# Altium schematic symbol library YAYAT-LIB.SchLib: 42 symbols
Pins are listed as number, name and electrical type; pins without a type are passive.

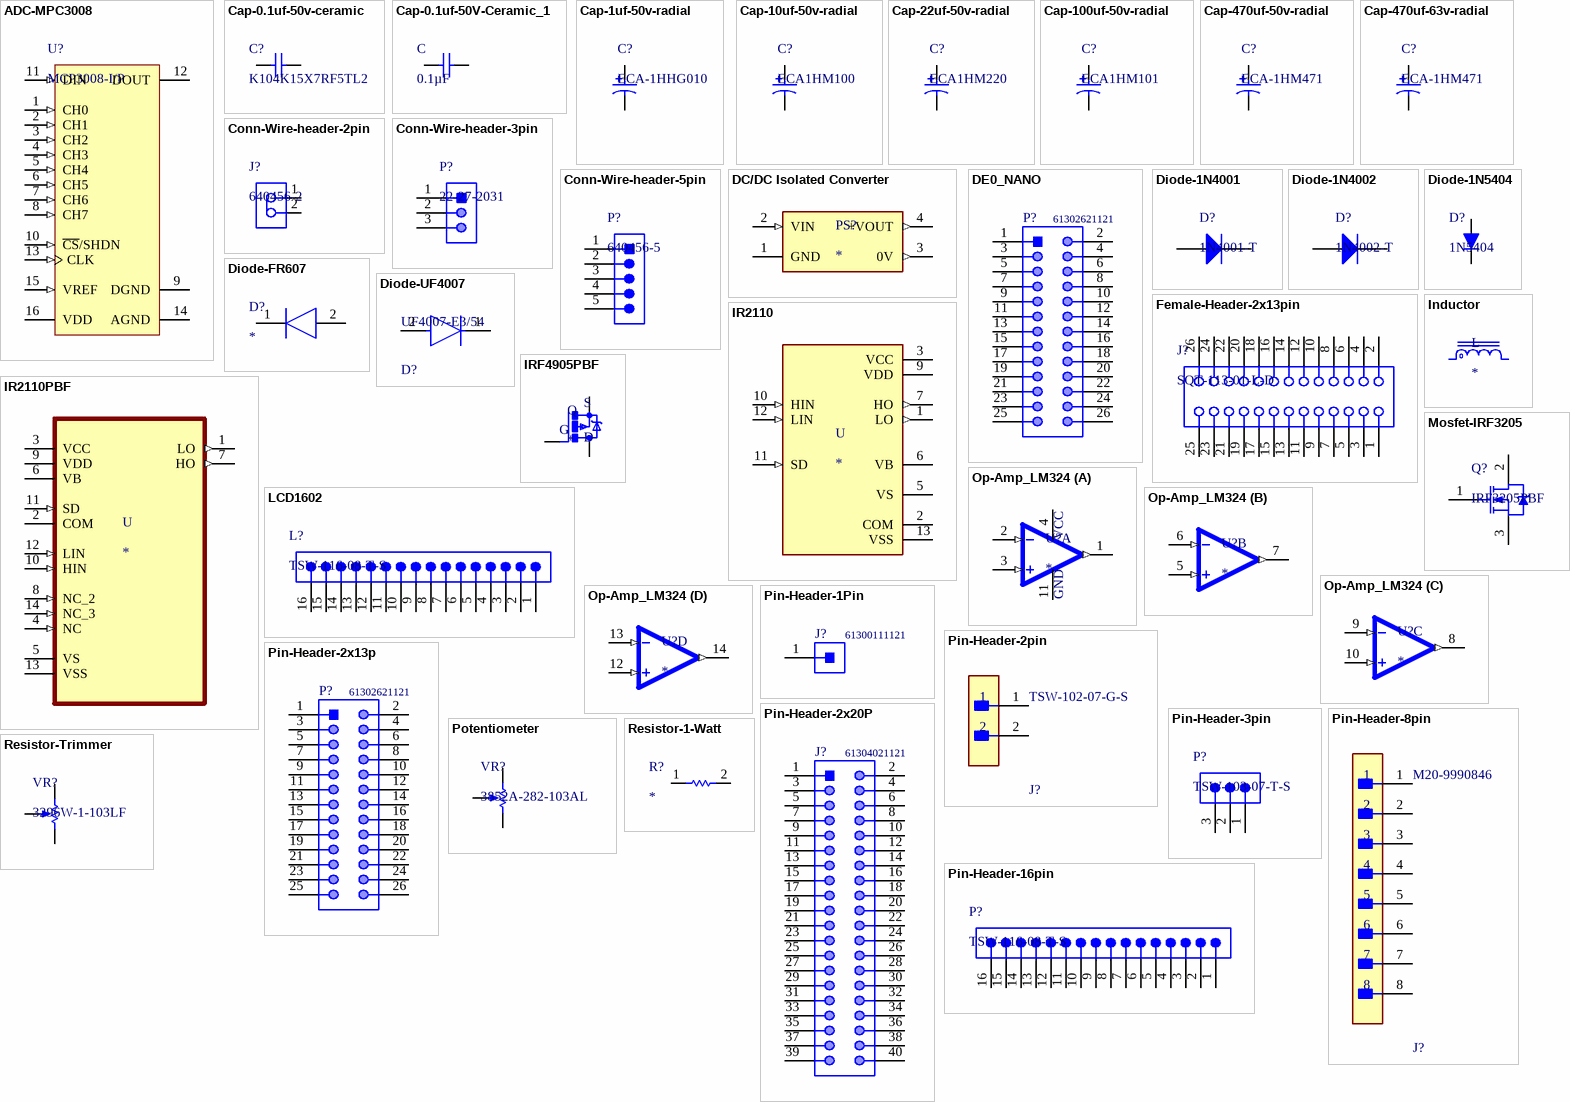
[diagram p0: symbols ADC-MPC3008 to Resistor-Trimmer]

## ADC-MPC3008
designator U?, comment MCP3008-I/P
2.7V 4-Channel/8-Channel 10-Bit A/D Converters with SPI Serial Interface, 16-Pin PDIP, Industrial Temperature; ComponentLink1URL: http://www.microchip.com/; ComponentLink2URL: http://ww1.microchip.com/downloads/en/DeviceDoc/21295d.pdf; PackageVersion: revBB, Aug-2009; ComponentLink3URL: http://www.microchip.com/stellent/groups/techpub_sg/documents/packagingspec/en012702.pdf; DatasheetVersion: revD, Dec-2008; PackageDescription: 16-Lead Plastic Dual In-Line (P) - 300 mil Body [PDIP]; ComponentLink3Description: Package Specification; Code_JEDEC: MS-001-BB; ComponentLink1Description: Manufacturer URL; RevisionNote: URLs added.; PackageReference: PDIP300-P16; ComponentLink2Description: Datasheet
footprint ADC-MPC3008 (DIP, 16-Leads, Row Spacing 7.62mm, Pitch 2.54mm, Body 19.2x6.6mm)
pins: 1 CH0 (in), 2 CH1 (in), 3 CH2 (in), 4 CH3 (in), 5 CH4 (in), 6 CH5 (in), 7 CH6 (in), 8 CH7 (in), 9 DGND (power), 10 ~{CS}/SHDN (in), 11 DIN (in), 12 DOUT (hiz), 13 CLK (in), 14 AGND (power), 15 VREF (in), 16 VDD (power)

## Cap-0.1uf-50v-ceramic
designator C?, comment K104K15X7RF5TL2
Ceramic Capacitor, 100 nF, +/- 10%, 50 V, -55 to 125 degC, 2-Pin THD, RoHS, Tape and Reel; Manufacturer: Vishay; Other Names: BC1084CT; Catalog Drawings: Mono-KapSide2-15_5.58Mono-KapSide1_15; Temperature Coefficient: X7R; Voltage - Rated: 50V; Online Catalog: Mono-Kap™Series; Capacitance: 0.1µF; Size / Dimension: 0.157"Lx0.098"W(4.00mmx2.50mm); Operating Temperature: -55°C~125°C; Family: CeramicCapacitors; Manufacturer URL: http://www.vishay.com/; Standard Package: 1; Thickness (Max): -; Ratings: -; Datasheet Version: 08/2013; Package Description: 2-Pin Through Hole Device, Body 4 x 2.6 mm; Mounting Type: ThroughHole; Features: -; Lead Spacing: 0.098"(2.50mm); Tolerance: ±10%; Category: Capacitors; Mounting Technology: ThroughHole; Lead Style: Straight; Datasheet URL: http://www.vishay.com/docs/45171/kseries.pdf; Applications: GeneralPurpose; Package / Case: Radial; Height - Seated (Max): 0.220"(5.58mm); Package Reference: K104K15X7RF5TL2; Series: Mono-Kap™K; Packaging: CutTape(CT)
footprint Cap-0.1uf-50v-ceramic (THD, 2-Leads, Body 4x2.6mm)
pins: 1, 2

## Cap-0.1uf-50V-Ceramic_1
designator C, comment 0.1µF
Lead Capacitor X7R_EIA_ with Capacitance: 0.10F and Rated Voltage: 50Vdc; MP: RDER71H104K0K1H03B; MF: Murata; Package: NONSTANDARD; Price: None; Availability: Unavailable; Value: *; SnapEDA_Link: https://www.snapeda.com/parts/RDER71H104K0K1H03B/Murata/view-part/4545566/?ref=snap
footprint Cap-0.1uf-50V-Ceramic1
pins: 1, 2

## Cap-1uf-50v-radial
designator C?, comment ECA-1HHG010
Aluminum Electrolytic Capacitor, 1 uF, +/- 20%, 50 V, -55 to 105 degC, 2-Pin THD, RoHS, Bulk; Channels: 2; ComponentLink1Description: Manufacturer URL; ComponentLink2Description: Datasheet; ComponentLink2URL: https://datasheet.ciiva.com/7275/94060-7275472.pdf; PackageDescription: 2-Pin Radial Lead, Dia 5 mm, Body Length 11 mm; PackageReference: CAPPR55-200-1100X500X1200; Mount: Through Hole; Radiation Hardening: No; ComponentLink1URL: http://www.panasonic.com/; Min Operating Temperature: -30 degC; Package Quantity: 150; Max Operating Temperature: 70 degC; DatasheetVersion: Mar-05; RoHSCompliant: true; Packaging: Bulk
footprint Cap-1uf-50v-radial (THD, 2-Leads, Dia 5mm, Body Length 11mm)
pins: 1, 2

## Cap-10uf-50v-radial
designator C?, comment ECA1HM100
Aluminum Electrolytic Capacitor, 10 uF, +/- 20%, 50 V, -40 to 85 degC, 2-Pin THD, RoHS, Bulk; Manufacturer: Panasonic; Life (Hours): 2000Hour; Lead/Base Style: Straight; Dissipation Factor: 0.12%; Capacitance: 10uF; Leakage Current: 3uA; Dielectric Material: Aluminium; Lead Diameter: 0.5mm; Voltage Rating: 50V; Ripple Current: 65mA; Package Reference: CAPPR55-200-1100X500X1200; Height: 11mm; Diameter: 5mm; REACH SVHC: NoSVHC; Mount: ThroughHole; Packaging: Bulk; Manufacturer URL: http://www.panasonic.com/; Termination: Radial; Datasheet URL: https://industrial.panasonic.com/cdbs/www-data/pdf/RDF0000/ABA0000C1218.pdf; Lead Free: LeadFree; Height - Seated (Max): 0.472inch; Case/Package: Radial; Package Description: 2-Pin Radial Lead, Dia 5 mm, Height 12 mm; Tolerance: 20%; Datasheet Version: Rev. 05, 10/2016; Package Quantity: 200; Ripple Current (AC): 65mA; Min Operating Temperature: -40degC; RoHSCompliant: true; Number of Pins: 2; Max Operating Temperature: 85degC; Voltage: 50V; Lead Pitch: 2mm; Radiation Hardening: No; Voltage Rating (DC): 50V; Length: 11mm
footprint Cap-10uf-50v-radial (THD, 2-Leads, Dia 5mm, Body Length 11mm)
pins: 1, 2

## Cap-22uf-50v-radial
designator C?, comment ECA1HM220
Aluminum Electrolytic Capacitor, 22 uF, +/- 20%, 50 V, -40 to 85 degC, 2-Pin THD, RoHS, Bulk; Manufacturer: Panasonic; Ripple Current: 100mA; Life (Hours): 2000Hour; Voltage: 50V; Dissipation Factor: 0.12%; Leakage Current: 3uA; Lead/Base Style: Straight; Capacitance: 22uF; Lead Diameter: 0.5mm; Max Operating Temperature: 85degC; Height: 11mm; Package Reference: CAPPR55-200-1100X500X1200; Radiation Hardening: No; RoHSCompliant: true; Termination: Radial; Case/Package: Radial; REACH SVHC: NoSVHC; Height - Seated (Max): 0.472inch; Min Operating Temperature: -40degC; Packaging: Bulk; Manufacturer URL: http://www.panasonic.com/; Length: 11mm; Tolerance: 20%; Voltage Rating: 50V; Voltage Rating (DC): 50V; Datasheet URL: https://industrial.panasonic.com/cdbs/www-data/pdf/RDF0000/ABA0000C1218.pdf; Lead Pitch: 2mm; Ripple Current (AC): 100mA; Package Description: 2-Pin Radial Lead, Dia 5 mm, Height 12 mm; Diameter: 5mm; Datasheet Version: Rev. 05, 10/2016; Package Quantity: 200; Mount: ThroughHole
footprint CAP-22uf-50v-radial (THD, 2-Leads, Dia 5mm, Body Length 11mm)
pins: 1, 2

## Cap-100uf-50v-radial
designator C?, comment ECA1HM101
Aluminum Electrolytic Capacitor, 100 uF, +/- 20%, 50 V, -40 to 85 degC, 2-Pin THD, RoHS, Bulk; Manufacturer: Panasonic; Lead Diameter: 0.6mm; Dielectric Material: Aluminium; Voltage Rating (DC): 50V; Ripple Current (AC): 250mA; Polarity: Polar; Leakage Current: 3uA; Capacitance: 100uF; Life (Hours): 2000Hour; Lead/Base Style: Straight; Dissipation Factor: 0.12%; Radiation Hardening: No; Height: 11.5mm; Package Quantity: 200; Package Reference: CAPPR65-350-1150X800X1250; Min Operating Temperature: -40degC; Mount: ThroughHole; Package Description: 2-Pin Radial Lead, Dia 8 mm, Height 12.5 mm; Case/Package: Radial; Diameter: 8mm; Voltage Rating: 50V; Length: 11.5mm; REACH SVHC: NoSVHC; Height - Seated (Max): 0.492inch; Datasheet URL: https://industrial.panasonic.com/cdbs/www-data/pdf/RDF0000/ABA0000C1218.pdf; RoHSCompliant: true; Ripple Current: 250mA; Lead Free: LeadFree; Voltage: 50V; Manufacturer URL: http://www.panasonic.com/; Number of Pins: 2; Datasheet Version: Rev. 05, 10/2016; Packaging: Bulk; Termination: Radial; Max Operating Temperature: 85degC; Tolerance: 20%; Lead Pitch: 3.5mm
footprint Cap-100uf-50v-radial (THD, 2-Leads, Dia 8mm, Body 11.5mm)
pins: 1, 2

## Cap-470uf-50v-radial
designator C?, comment ECA-1HM471
Aluminum Electrolytic Capacitor, 470 uF, +/- 20%, 50 V, -40 to 85 degC, 2-Pin THD, RoHS, Bulk; Voltage Rating: 10 V; Case\Package: 1210; Tolerance: 10%; Capacitance: 47 uF; Type (Capacitors): X7R; ComponentLink1URL: http://www.panasonic.com/; PackageDescription: 2-Pin Radial Lead, Dia 10 mm, Body Length 20 mm; RoHSCompliant: true; Mount: Surface Mount; Radiation Hardening: No; PackageReference: CAPPR65-500-2000X1000X2200; ComponentLink1Description: Manufacturer URL; DatasheetVersion: Mar-16; Case Code (Imperial): 1210; Max Operating Temperature: 125 degC; Height: 2.5 mm; Voltage Rating (DC): 10 V; REACH SVHC: No SVHC; ComponentLink2URL: http://industrial.panasonic.com/cdbs/www-data/pdf/RDF0000/ABA0000C1047.pdf; Length: 3.2 mm; Min Operating Temperature: -55 degC; Case Code (Metric): 3225; Width: 2.5 mm; Pins: 2; Packaging: Tape and Reel; Package Quantity: 1000; ComponentLink2Description: Datasheet
footprint Cap-470uf-50v-radial (THD, 2-Leads, Dia 10mm, Body Length 20mm)
pins: 1, 2

## Cap-470uf-63v-radial
designator C?, comment ECA-1HM471
Aluminum Electrolytic Capacitor, 470 uF, +/- 20%, 50 V, -40 to 85 degC, 2-Pin THD, RoHS, Bulk; Voltage Rating: 10 V; Case\Package: 1210; Tolerance: 10%; Capacitance: 47 uF; Type (Capacitors): X7R; ComponentLink1URL: http://www.panasonic.com/; PackageDescription: 2-Pin Radial Lead, Dia 10 mm, Body Length 20 mm; RoHSCompliant: true; Mount: Surface Mount; Radiation Hardening: No; PackageReference: CAPPR65-500-2000X1000X2200; ComponentLink1Description: Manufacturer URL; DatasheetVersion: Mar-16; Case Code (Imperial): 1210; Max Operating Temperature: 125 degC; Height: 2.5 mm; Voltage Rating (DC): 10 V; REACH SVHC: No SVHC; ComponentLink2URL: http://industrial.panasonic.com/cdbs/www-data/pdf/RDF0000/ABA0000C1047.pdf; Length: 3.2 mm; Min Operating Temperature: -55 degC; Case Code (Metric): 3225; Width: 2.5 mm; Pins: 2; Packaging: Tape and Reel; Package Quantity: 1000; ComponentLink2Description: Datasheet
footprint Cap-470uf-63v-radial (THD, 2-Leads, Dia 10mm, Body Length 20mm)
pins: 1, 2

## Conn-Wire-header-2pin
designator J?, comment 640456-2
Male Header, Pitch 2.54 mm, 1 x 2 Position, Height 10.49 mm, Tail Length 3.556 mm, -55 to 105 degC, RoHS, Bulk; Manufacturer: TE Connectivity; Standards: RoHSCompliant,ELVCompliant,UL94V-0; Material, Housing: Polyester; Agency Approvals: CSA,UL; Brand/Series: MTA-100Series; Contact Centerline Spacing: 0.100 / in.; Material, Contact: CopperAlloy; Current, Rating: 5 / A; Color, Housing: White; Contact Termination Area Plating: Tin; Special Features: Pinstrip; Number of Positions: 2; Pin Spacing: 0.1 / "; Temperature, Operating: -55to+105 / degC; Angle: Straight; Mount Angle: Vertical; Connector Type: MTA-100; Primary Type: InterconnectSystem; Voltage, Rating: 250 / V; Mounting Hole Size: 0.04 / "; Number of Rows: 1; Termination: Solder; Length, Terminal Post: 0.14 / in.; Manufacturer URL: http://www.te.com/; Color: White; Size, Post: 0.025 / in.; Contact Shape: Square; Mounting Type: PCMount; Datasheet URL: https://datasheet.ciiva.com/11746/0900766b80eb7fdd-11746365.pdf; Type: PCBPlug; Datasheet Version: Rev. W, 06/2004; Number of Contacts: 2; Flammability Rating: UL94V-0; Contact Plating: Tin; Length, Pin: 0.14 / "; Contact Mating Area Plating: Tin; Length, Overall: 0.2 / "
footprint Conn-Wire-header-2pin (HDR, 2-Leads, Body 5.715x5.08mm, Pitch 2.54mm)
pins: 1, 2

## Conn-Wire-header-3pin
designator P?, comment 22-27-2031
Male Header, Pitch 2.54 mm, 1 x 3 Position, Height 11.7 mm, Tail Length 3.56 mm, -40 to 80 degC, RoHS, Bulk; Manufacturer: Molex; Voltage rating: 250V; Current rating: 4A; Package Reference: 22-27-2031; Housing material: Nylon(UL94V-0); Operating temperature: 0°Cto+75°C; Package Description: Male Header, Pitch 2.54 mm, 1 x 3 Position, Height 11.7 mm, Tail Length 3.56 mm; Package URL: http://www.molex.com/pdm_docs/sd/022272031_sd.pdf; Datasheet Version: 06/2016; Manufacturer URL: http://www.molex.com/; Mounting Technology: ThroughHole; Datasheet URL: http://www.molex.com/webdocs/datasheets/pdf/en-us/0022272031_PCB_HEADERS.pdf; Contact material: Tinplatedbrass
footprint Conn-Wire-header-3pin (Header, 3-Leads, Body 7.62x5.8mm, Pitch 2.54mm)
pins: 1, 2, 3

## Conn-Wire-header-5pin
designator P?, comment 640456-5
Male Header, Pitch 2.54 mm, 1 x 5 Position, Height 10.03 mm, Tail Length 3.56 mm, / -55 to 105 degC, RoHS, Bulk; Manufacturer: TE Connectivity; Material, Housing: Polyester; Brand/Series: MTA-100Series; Color, Housing: White; Current, Rating: 5 / A; Temperature, Operating: -55to+105 / °C; Connector Type: MTA-100; Agency Approvals: CSA,UL; Material, Contact: CopperAlloy; Mounting Hole Size: 0.04 / "; Voltage, Rating: 250 / V; Contact Termination Area Plating: Tin; Pin Spacing: 0.1 / "; Primary Type: InterconnectSystem; Special Features: Pinstrip; Mount Angle: Vertical; Contact Centerline Spacing: 0.100 / in.; Number of Contacts: 5; Standards: RoHSCompliant,ELVCompliant,UL94V-0; Angle: Straight; Length, Terminal Post: 0.14 / in.; Manufacturer URL: http://www.te.com; Flammability Rating: UL94V-0; Mounting Type: PCMount; Termination: Solder; Package Reference: THD; Length, Overall: 0.5 / "; Contact Mating Area Plating: Tin; Length, Pin: 0.14 / "; Datasheet URL: http://sigma.octopart.com/77881742/technical_drawing/TE-Connectivity-640456-5.pdf; Package Description: Male Header, Pitch 2.54 mm, 1 x 5 Position, Height 10.03 mm, Tail Length 3.56 mm; Datasheet Version: Rev. W3; Contact Plating: Tin; Color: White; Number of Positions: 5; Type: PCBPlug; Contact Shape: Square; Number of Rows: 1; Size, Post: 0.025 / in.
footprint Conn-Wire-header-5pin (Through Hole, 5-Leads, Body 12.7x5.72mm, Pitch 2.54mm)
pins: 1 DTR, 2 RXI, 3 TXO, 4 VCC, 5 CTS

## DC/DC Isolated Converter
designator PS?
MP: PDSE1-S24-S15-S; Package: None; Value: *; Price: None; Availability: Unavailable
footprint DC/DC Isolated Converter
pins: 1 GND (power), 2 VIN (in), 3 0V (out), 4 +VOUT (out)

## DE0_NANO
designator P?, comment 61302621121
THT Vertical Pin Header WR-PHD, Pitch 2.54 mm, Dual Row, 26 pins; Manufacturer: Wurth Elektronik; Pin Number: 26; Withstanding Voltage: 500VAC; Working Voltage: 250VAC; Contact Resistance: 20mOhm; Pitch: 2.54mm; Rated Current: 3A; Gender: Male; Package Reference: 61302621121; Manufacturer URL: http://www.we-online.de; Row Number: Dual; Packaging: Bag; Publisher: WurthElektronik; Datasheet URL: https://katalog.we-online.de/em/datasheet/6130xx21121.pdf; Operating Temperature: -40to105degC; Mounting Technology: THT; Orientation: Vertical; Part Number: 61302621121
footprint DE0-nano (Pin Header, pitch 2.54 mm, THT, Vertical, dual row, 26p)
pins: 1, 2, 3, 4, 5, 6, 7, 8, 9, 10, 11, 12, 13, 14, 15, 16, 17, 18, 19, 20, 21, 22, 23, 24, 25, 26

## Diode-1N4001
designator D?, comment 1N4001-T
1.0 A Rectifier, 15 pF, 50 V, -65 to 150 degC, 2-Pin DO-41 Plastic, RoHS, Tape and Reel; Manufacturer: Diodes Inc; VF (V): 1; CT (pF): 15; Max. IR (uA): 5; VRRM (V): 50; Max. IFSM (A): 30; RoHS: TRUE; Mounting Technology: Through Hole; PartNumber: 1N4001-T; ComponentLink2Description: Datasheet; DatasheetVersion: Rev. 8-2; Operating Temperature Range (degC): -65 to 150; Packing: Tape and Reel; PackageReference: DO-41-P-2; ComponentLink1URL: http://diodes.com/; PackageDescription: 2-Pin Axial Lead, Body 4.635 x 2.36 mm, Lead Spread 25.4 mm; ComponentLink2URL: http://diodes.com/datasheets/ds28002.pdf; Max. Average Rectified Current IO (A): 1; ComponentLink1Description: Manufacturer URL
footprint Diode-1N4001 (2-Leads, Axial Lead, Body 4.635x2.36mm, Pin Spacing 9mm)
pins: 1 A, 2 K

## Diode-1N4002
designator D?, comment 1N4002-T
1.0 A Rectifier, 15 pF, 100 V, -65 to 150 degC, 2-Pin DO-41 Plastic, RoHS, Tape and Reel; Manufacturer: Diodes Inc; Max. Average Rectified Current IO (A): 1; Max. IFSM (A): 30; CT (pF): 15; Max. IR (uA): 5; VRRM (V): 100; DatasheetVersion: Rev. 8-2; ComponentLink2Description: Datasheet; PartNumber: 1N4002-T; ComponentLink2URL: http://diodes.com/datasheets/ds28002.pdf; PackageDescription: 2-Pin Axial Lead, Body 4.635 x 2.36 mm, Lead Spread 25.4 mm; ComponentLink1Description: Manufacturer URL; RoHS: TRUE; Mounting Technology: Through Hole; Packing: Tape and Reel; Operating Temperature Range (degC): -65 to 150; VF (V): 1; ComponentLink1URL: http://diodes.com/; PackageReference: DO-41-P-2
footprint Diode-1N4002 (2-Leads, Axial Lead, Body 4.635x2.36mm, Pin Spacing 9mm)
pins: 1 A, 2 K

## Diode-1N5404
designator D?, comment 1N5404
Standard Recovery Rectifier, 2-Pin Axial_Lead, Pb-Free, Bulk Box; Manufacturer: On Semiconductor; IFSM Max (A): 200; VRRM Max (V): 400; IO(rec) Max (A): 3; ComponentLink3Description: Package Specification; PackageDescription: 2-Pin, Axial Lead, Diameter 5.05 mm; Type: Standard Recovery; PackageVersion: Rev. G, 06/2000; ComponentLink1Description: Manufacturer URL; ComponentLink2Description: Datasheet; Packing: Bulk Box; PackageReference: AXIAL_LEAD-2-267-05; Mounting Technology: Through Hole; DatasheetVersion: Rev. 10; RoHS: TRUE; ComponentLink3URL: http://www.onsemi.com/pub_link/Collateral/267-05.PDF; PartNumber: 1N5404; ComponentLink2URL: http://www.onsemi.com/pub_link/Collateral/1N5400-D.PDF; ComponentLink1URL: http://www.onsemi.com/
footprint Diode-1N5404
pins: 1 A, 2 K

## Diode-FR607
designator D?
Diode; Manufacturer_Name: Comchip Technology; Manufacturer_Part_Number: FR607-G; Datasheet Link: https://componentsearchengine.com/Datasheets/1/FR607-G.pdf; Mouser Part Number: 750-FR607-G; Mouser Price/Stock: https://www.mouser.co.uk/ProductDetail/Comchip-Technology/FR607-G?qs=2qJf6qQ4IOLkuLNviEGezw%3D%3D
footprint Diode-FR607
pins: 1 K, 2 A

## Diode-UF4007
designator D?, comment UF4007-E3/54
DIODE GEN PURP 1KV 1A DO204AL; Manufacturer: Vishay; Max Junction Temp: +150°C; Max Repetitive Reverse Voltage: 1000V; Max Surge Forward Current: 30A; Capacitance: 17pF; Peak Reverse Current: 10uA; Value: 17pF; Package: UF4007; Height: 2.7mm; RoHS: TRUE; Device Class L3: Rectifier Diodes; Temperature Range Low: -55°C; Ipc Land Pattern Name: DIOPA1088W105L520D270; Temperature: -55°C to +150°C; Category: Diode; Device Class L2: Diodes; Device Class L1: Discrete Semiconductors; Digikey Description: DIODE GEN PURP 1KV 1A DO204AL; Octopart: https://octopart.com/uf4007-e3%2F54-vishay-42333894; Mouser Description: Rectifiers Vr/1000V Io/1A; ComponentLink2URL: http://www.vishay.com/docs/88755/uf4001.pdf; Lead Free: Yes; Temperature Range High: +150°C; Automotive: No; Manufacturer Part Number: UF4007-E3/54; ComponentLink2Description: Datasheet; Forward Current: 1A
footprint Diode-UF4007
pins: 1 C, 2 A

## Female-Header-2x13pin
designator J?, comment SQT-113-01-L-D
Cost-Effective Rugged Socket, Through-hole, Vertical, -55 to 125 degC, 2 mm Pitch, 26-Pin, Female, RoHS; Manufacturer: Samtec; Pitch: 2 mm; Temperature Range: -55 to 125 degC; ComponentLink2URL: http://www.samtec.com/documents/webfiles/pdf/SQT_TH.PDF; DatasheetVersion: F-214; ComponentLink1Description: Manufacturer URL; Orientation: Vertical; ComponentLink2Description: Datasheet; PackageDescription: 2mm Socket Strip Assembly; RoHS: True; PackageReference: SQT-113-01-X-D; Mounting Technology: Through-hole; PackageVersion: BY, 7/1995; ComponentLink1URL: http://www.samtec.com; PartNumber: SQT-113-01-L-D; ComponentLink3URL: http://www.samtec.com/documents/webfiles/cpdf/SQT-1XX-XX-XXX-X-XXX-XXX-MKT.pdf; ComponentLink3Description: Package Specification
footprint Female-Header-2x13pin (Socket Strip Assembly, 2x13 Pins, Vertical, 2mm Pitch, Female)
pins: 1, 2, 3, 4, 5, 6, 7, 8, 9, 10, 11, 12, 13, 14, 15, 16, 17, 18, 19, 20, 21, 22, 23, 24, 25, 26

## Inductor
designator L
330ÂµH Unshielded Toroidal Inductor 3A 150mOhm Max Radial, Vertical (Open); MP: PE-53117; MF: Pulse Electronics; Value: *; SnapEDA_Link: https://www.snapeda.com/parts/PE-53117/Pulse%20Electronics%20Network/view-part/4706173/?ref=snap; Price: None; Package: Radial Pulse Electronics; Availability: Bad
footprint Inductor
pins: 1, 2

## IR2110
designator U
Half-Bridge Gate Driver IC Non-Inverting 14-DIP; MP: IR2110; MF: Infineon; Package: DIP-14 Infineon; Availability: Unavailable; Value: *; SnapEDA_Link: https://www.snapeda.com/parts/IR2110/Infineon%20Technologies/view-part/549251/?ref=snap; Price: None
footprint Mosfet-Driver-Ir2110
pins: 1 LO (out), 2 COM (power), 3 VCC (power), 5 VS, 6 VB, 7 HO (out), 9 VDD (power), 10 HIN (in), 11 SD (in), 12 LIN (in), 13 VSS (power)

## IR2110PBF
designator U
Floating channel designed for bootstrap operation | Fully operational to +500 V | Fully operational to +600 V verstion available _IR2113 | dV/dt immune | Gate drive supply range from 10 to 20 V | Undervoltage lockout for both channels | 3.3 V logic compatible | Separate logic supply range from 3.3 V to 20 V | Logic and power ground + /- 5 V offset | CMOS Schmitt-triggered inputs with pull-down | Cycle by cycle edge-triggered shutdown logic | Matched propagation delay for both channels | Outputs in phase with inputs; MP: IR2110PBF; MF: Infineon; Price: None; Package: DIP-14 Infineon; Value: *; Availability: Unavailable; SnapEDA_Link: https://www.snapeda.com/parts/IR2110PBF/Infineon%20Technologies/view-part/547122/?ref=snap
footprint Mosfet-Driver-IR2110PBF
pins: 1 LO (out), 2 COM, 3 VCC (power), 4 NC (in), 5 VS (power), 6 VB (power), 7 HO (out), 8 NC_2 (in), 9 VDD (power), 10 HIN (in), 11 SD (in), 12 LIN (in), 13 VSS (power), 14 NC_3 (in)

## IRF4905PBF
designator Q
P-Channel 55V 74A _Tc_ 200W _Tc_ Through Hole TO-220AB; MF: Infineon Technologies; MP: IRF4905PBF; Price: None; SnapEDA_Link: https://www.snapeda.com/parts/IRF4905PBF/Infineon%20Technologies/view-part/98985/?ref=snap; Package: TO-220 International Rectifier; Availability: Unavailable; Value: *
footprint IRF4905PBF
pins: D, G, S

## LCD1602
designator L?, comment TSW-116-08-T-S
0.025" SQ Post Header, Through-hole, Vertical, -55 to 105 degC, 2.54 mm Pitch, 16-Pin, Male, RoHS; Manufacturer: Samtec; Pitch: 2.54 mm; PackageDescription: .025[0.64] SQ. Post Terminal Strip Assembly; Orientation: Vertical; DatasheetVersion: F-214; ComponentLink2URL: http://www.samtec.com/documents/webfiles/pdf/TSW_TH.PDF; ComponentLink3URL: http://www.samtec.com/documents/webfiles/cpdf/TSW-XXX-XX-XXX-X-XX-XXX-MKT.pdf; ComponentLink1URL: http://www.samtec.com; PackageReference: TSW-116-08-X-S; ComponentLink2Description: Datasheet; ComponentLink1Description: Manufacturer URL; ComponentLink3Description: Package Specification; Temperature Range: -55 to 105 degC; Mounting Technology: Through-hole; PartNumber: TSW-116-08-T-S; PackageVersion: DM, 8/1988; RoHS: True
footprint LCD1602 (.025 SQ Post Terminal Strip Assembly, 1x16 Pins, Vertical, 2.54mm Pitch, Male)
pins: 1, 2, 3, 4, 5, 6, 7, 8, 9, 10, 11, 12, 13, 14, 15, 16

## Mosfet-IRF3205
designator Q?, comment IRF3205PBF
HEXFET(R) Power N-Channel MOSFET, 55 V, 110 A, -55 to 117 degC, 3-Pin TO-220AB, RoHS, Rail/Tube; Manufacturer: International Rectifier; Typical Gate Charge @ Vgs: 146nC@10V; Maximum Gate Source Voltage: ±20V; Maximum Continuous Drain Current: 110A; Typical Input Capacitance @ Vds: 3247pF@25V; Channel Type: N; Minimum Gate Threshold Voltage: 2V; Number of Elements per Chip: 1; Transistor Configuration: Single; Transistor Material: Si; Maximum Drain Source Voltage: 55V; Maximum Gate Threshold Voltage: 4V; Typical Turn-Off Delay Time: 50ns; Typical Turn-On Delay Time: 14ns; Channel Mode: Enhancement; Maximum Drain Source Resistance: 0.008Ω; Maximum Power Dissipation: 200W; Package Version: Feb-04; Package Type: TO-220AB; Width: 4.69mm; Dimensions: 10.54x4.69x8.77mm; Category: PowerMOSFET; Package URL: http://www.infineon.com/dgdl/bts110.pdf?folderId=db3a304412b407950112b43583c16310&fileId=db3a304412b407950112b43584326311&sId=db3a30443e3c704d013e4eb6657a2604; Package Description: 3-Pin Plastic (Green) Transistor Single Outline Package, 9.9 x 9.2 mm Body, 2.54 mm Pitch; Package Reference: PG-TO-220AB; Length: 10.54mm; Height: 8.77mm; Datasheet Version: Jul-10; Minimum Operating Temperature: -55degC; Manufacturer URL: http://internationalrectifier.com/; Datasheet URL: http://datasheet.octopart.com/IRF3205PBF-International-Rectifier-datasheet-10898897.pdf; Maximum Operating Temperature: +175degC; Pin Count: 3; Mounting Type: ThroughHole
footprint Mosfet-IRF3205 (FM, 3-Leads, Body 9.9x4.4mm, Pitch 2.54mm)
pins: 1 G, 2 D, 3 S

## Op-Amp_LM324
designator U?
MP: LM324NE3; Package: None; Availability: Unavailable; Price: None; Value: *
footprint Op-Amp_LM324
part A pins: 1 1OUT (out), 2 1IN- (in), 3 1IN+ (in), 4 VCC (power), 11 GND (power)
part B pins: 5 2IN+ (in), 6 2IN- (in), 7 2OUT (out)
part C pins: 8 3OUT (out), 9 3IN- (in), 10 3IN+ (in)
part D pins: 12 4IN+ (in), 13 4IN- (in), 14 4OUT (out)

## Pin-Header-1Pin
designator J?, comment 61300111121
THT Vertical Pin Header WR-PHD, Pitch 2.54 mm, Single Row, 1 pins; Manufacturer: Wurth Elektronik; Gender: Male; Working Voltage: 250VAC; Withstanding Voltage: 500VAC; Pin Number: 1; Contact Resistance: 20mOhm; Rated Current: 3A; Pitch: 2.54mm; Mounting Technology: THT; Datasheet URL: https://katalog.we-online.de/em/datasheet/6130xx11121.pdf; Manufacturer URL: http://www.we-online.de; Operating Temperature: -40to105degC; Publisher: WurthElektronik; Part Number: 61300111121; Row Number: Single; Package Reference: 61300111121; Orientation: Vertical; Packaging: Bag
footprint PIN-HEADER-1PIN (Pin Header, pitch 2.54 mm, THT, Vertical, single row, 1p)
pins: 1

## Pin-Header-2pin
designator J?, comment TSW-102-07-G-S
CONN HEADER VERT 2POS 2.54MM; Manufacturer: Samtec; Number Of Contacts: 2; Voltage Rating: 550V; Conn Orientation: Straight; Current Rating: 6.3A; Conn Gender: Male; Package: TSW-102-07-G-S; Digikey Description: CONN HEADER VERT 2POS 2.54MM; ComponentLink2URL: http://suddendocs.samtec.com/catalog_english/tsw_th.pdf; Height: 8.71mm; Temperature: -55°C to +125°C; Device Class L2: Headers and Wire Housings; ComponentLink2Description: Datasheet; Device Class L3: unset; Contact Material: Gold,Nickel; Temperature Range Low: -55°C; Temperature Range High: +125°C; RoHS: TRUE; Device Class L1: Connectors; Mouser Description: Conn Unshrouded Header HDR 2 POS 2.54mm Solder ST Thru-Hole Automotive Bulk; Number Of Rows: 1; Category: Conn; Pitch: 2.54mm; Lead Free: Yes; Automotive: No; Manufacturer Part Number: TSW-102-07-G-S; Footprint Url: http://suddendocs.samtec.com/prints/tsw-xxx-xx-x-x-xx-xxx-footprint.pdf; Octopart: https://octopart.com/tsw-102-07-g-s-samtec-272197
footprint Pin-Header-2pin
pins: 1, 2

## Pin-Header-2x13p
designator P?, comment 61302621121
THT Vertical Pin Header WR-PHD, Pitch 2.54 mm, Dual Row, 26 pins; Manufacturer: Wurth Elektronik; Pin Number: 26; Withstanding Voltage: 500VAC; Working Voltage: 250VAC; Contact Resistance: 20mOhm; Pitch: 2.54mm; Rated Current: 3A; Gender: Male; Package Reference: 61302621121; Manufacturer URL: http://www.we-online.de; Row Number: Dual; Packaging: Bag; Publisher: WurthElektronik; Datasheet URL: https://katalog.we-online.de/em/datasheet/6130xx21121.pdf; Operating Temperature: -40to105degC; Mounting Technology: THT; Orientation: Vertical; Part Number: 61302621121
footprint Pin-Header-2x13Pin (Pin Header, pitch 2.54 mm, THT, Vertical, dual row, 26p)
pins: 1, 2, 3, 4, 5, 6, 7, 8, 9, 10, 11, 12, 13, 14, 15, 16, 17, 18, 19, 20, 21, 22, 23, 24, 25, 26

## Pin-Header-2x20P
designator J?, comment 61304021121
THT Vertical Pin Header WR-PHD, Pitch 2.54 mm, Dual Row, 40 pins; Manufacturer: Wurth Elektronik; Contact Resistance: 20mOhm; Pitch: 2.54mm; Pin Number: 40; Withstanding Voltage: 500VAC; Gender: Male; Rated Current: 3A; Working Voltage: 250VAC; Operating Temperature: -40to105degC; Manufacturer URL: http://www.we-online.de; Orientation: Vertical; Datasheet URL: https://katalog.we-online.de/em/datasheet/6130xx21121.pdf; Package Reference: 61304021121; Row Number: Dual; Part Number: 61304021121; Packaging: Bag; Mounting Technology: THT; Publisher: WurthElektronik
footprint Pin-Header-2x20pin (Pin Header, pitch 2.54 mm, THT, Vertical, dual row, 40p)
pins: 1, 2, 3, 4, 5, 6, 7, 8, 9, 10, 11, 12, 13, 14, 15, 16, 17, 18, 19, 20, 21, 22, 23, 24, 25, 26, 27, 28, 29, 30, 31, 32, 33, 34, 35, 36, 37, 38, 39, 40

## Pin-Header-3pin
designator P?, comment TSW-103-07-T-S
0.025" SQ Post Header, Through-hole, Vertical, -55 to 105 degC, 2.54 mm Pitch, 3-Pin, Male, RoHS; Manufacturer: Samtec; Pitch: 2.54 mm; ComponentLink1URL: http://www.samtec.com; ComponentLink3URL: http://www.samtec.com/documents/webfiles/cpdf/TSW-XXX-XX-XXX-X-XX-XXX-MKT.pdf; PartNumber: TSW-103-07-T-S; Mounting Technology: Through-hole; RoHS: True; DatasheetVersion: F-214; PackageVersion: DM, 8/1988; Temperature Range: -55 to 105 degC; ComponentLink2Description: Datasheet; ComponentLink1Description: Manufacturer URL; Orientation: Vertical; PackageReference: TSW-103-07-X-S; ComponentLink3Description: Package Specification; ComponentLink2URL: http://www.samtec.com/documents/webfiles/pdf/TSW_TH.PDF; PackageDescription: .025[0.64] SQ. Post Terminal Strip Assembly
footprint Pin-Header-3pin (.025 SQ Post Terminal Strip Assembly, 1x3 Pins, Vertical, 2.54mm Pitch, Male)
pins: 1, 2, 3

## Pin-Header-8pin
designator J?, comment M20-9990846
CONN HEADER VERT 8POS 2.54MM; Connector Type: Male Pin; Gender: Male; Insulation Resistance: 1GR; Number of Positions: 8; Contact Resistance: 30mR; Current Rating: 3A; Termination: Solder; Case/Package: SIL; RoHS Compliant: Yes; Series: M20; Housing Material: Nylon; Radiation Hardening: No; Package Quantity: 1000; Contact Material: Brass; Contact Plating: Tin; Max Operating Temperature: 105°C; Contact Mating Length: 0.24inch; Depth: 2.54mm; Color: Black; Number of Contacts: 8; Mount: Through Hole; Number of Rows: 1; Packaging: Bulk; Min Operating Temperature: -40°C; Max Current Rating: 3A; REACH SVHC: No SVHC; Pitch: 2.54mm; Housing Color: Black; Orientation: Straight; Length: 20.32mm; Contact Type: Male Pin
footprint Pin-Header-8pin
pins: 1, 2, 3, 4, 5, 6, 7, 8

## Pin-Header-16pin
designator P?, comment TSW-116-08-T-S
0.025" SQ Post Header, Through-hole, Vertical, -55 to 105 degC, 2.54 mm Pitch, 16-Pin, Male, RoHS; Manufacturer: Samtec; Pitch: 2.54 mm; PackageDescription: .025[0.64] SQ. Post Terminal Strip Assembly; Orientation: Vertical; DatasheetVersion: F-214; ComponentLink2URL: http://www.samtec.com/documents/webfiles/pdf/TSW_TH.PDF; ComponentLink3URL: http://www.samtec.com/documents/webfiles/cpdf/TSW-XXX-XX-XXX-X-XX-XXX-MKT.pdf; ComponentLink1URL: http://www.samtec.com; PackageReference: TSW-116-08-X-S; ComponentLink2Description: Datasheet; ComponentLink1Description: Manufacturer URL; ComponentLink3Description: Package Specification; Temperature Range: -55 to 105 degC; Mounting Technology: Through-hole; PartNumber: TSW-116-08-T-S; PackageVersion: DM, 8/1988; RoHS: True
footprint Pin-Header-16pin (.025 SQ Post Terminal Strip Assembly, 1x16 Pins, Vertical, 2.54mm Pitch, Male)
pins: 1, 2, 3, 4, 5, 6, 7, 8, 9, 10, 11, 12, 13, 14, 15, 16

## Potentiometer
designator VR?, comment 3852A-282-103AL
Diameter Panel Control, 10 KOhm, +/- 10%, 2 W, -1 to 125 degC, 3-Pin THD, RoHS, Bulk; Manufacturer: Bourns; Temperature Coefficient: ±150ppm/degC; Number of Gangs: 1; Other Names: 3852A282103AL; Actuator Length: 0.875"(22.23mm); Resistive Material: Cermet; PCN Design/Specification: PBTResinJun/2011; Rotation: 280deg; PCN Other: MultipleChanges01/Dec/2012; Catalog Drawings: 3852SeriesSide1 / 3852SeriesSide2; Online Catalog: 3852and3856Series; Associated Product: 36-8560-ND / -KNOBINSTRUMW/DIALRND.9"DIA / 36-8555-ND / -KNOBINSTRUMSKIRTEDRND.7"DIA / 36-8556-ND / -KNOBINSTRUMSKIRTEDRND.9"DIA / 36-8565-ND / -KNOBINSTRUMDBLBARRND.7"DIA / 36-8566-ND / -KNOBINSTRUMDBLBARRND.9"DIA / 36-8568-ND / -KNOBINSTRUMSGLBARRND.7"DIA / 36-8569-ND / -KNOBINSTRUMSGLBARRND.9"DIA / 36-8559-ND / -KNOBINSTRUMW/DIALRND.7"DIA / 226-1006-ND / -KNOBBLKGLOSS.75"DIA.250"SHAFT / 226-1007-ND / -KNOBBLKGLOSS.925"DIA.250"SHAFT / 226-1011-ND / -KNOBBLKGLOS; Actuator Diameter: 0.250"(6.35mm); Built in Switch: None; Resistance (Ohms): 10k; Power (Watts): 2W; Actuator Type: Slotted; Standard Package: 45; Tolerance: ±10%; Taper: Linear; Series: 3852; Packaging: Bulk; Category: Potentiometers,VariableResistors; Bushing Thread: 3/8-32; Datasheet URL: https://datasheet.ciiva.com/11831/0900766b80f93b4b-11831016.pdf; Datasheet Version: Sep-14; Number of Turns: 1; Family: RotaryPotentiometers,Rheostats; Termination Style: SolderLug; RoHS Information: 3852A-LMaterialDeclaration; Mounting Type: PanelMount; Manufacturer URL: http://www.bourns.com/
footprint Potentiometer (TH, 3-Leads, Body 19.81x19.05mm, Pitch 6.35mm)
pins: 1 CCW, 2 S, 3 CW

## Resistor-1-Watt
designator R?
Resistor; Manufacturer_Name: Ohmite; Manufacturer_Part_Number: OK1025E-R52; Datasheet Link: https://www.alliedelec.com/m/d/7f961050c862e52d900c42b673f6b00a.pdf; Mouser Part Number: 588-OK1025E-R52; Mouser Price/Stock: https://www.mouser.co.uk/ProductDetail/Ohmite/OK1025E-R52?qs=AkUtuiJmyfnfEYTpIxxGIg%3D%3D
footprint Resistor-1-Watt
pins: 1, 2

## Resistor-Trimmer
designator VR?, comment 3296W-1-103LF
Square Trimpot(R) Trimming Potentiometer, 10 KOhm, +/- 10%, 0.5 W, -55 to 125 degC, 3-Pin THD, RoHS, Tube; Voltage Rating: 75 V; Resistance: 120 Ohm; Tolerance: 1%; Power Rating: 100 mW; Case\Package: 0603; Type (Resistor): Thick Film; PackageDescription: 3-Pin Through Hole Device, Body 9.53 x 4.83 mm, Pitch 2.54 mm; RoHSCompliant: true; Package Quantity: 5000; Case Code (Metric): 1608; PackageReference: 3296W; ComponentLink2Description: Datasheet; REACH SVHC: Unknown; Case Code (Imperial): 0603; ComponentLink1URL: http://www.bourns.com/; Width: 0.85 mm; Radiation Hardening: No; Min Operating Temperature: -55 degC; Mount: Surface Mount; ComponentLink1Description: Manufacturer URL; Max Operating Temperature: 155 degC; Weight: 7.1E-05 oz; Pins: 2; DatasheetVersion: May-16; Packaging: Tape and Reel; Height: 0.45 mm; Length: 1.55 mm; ComponentLink2URL: http://www.bourns.com/docs/Product-Datasheets/3296.pdf
footprint Resistor-Trimmer (THD, 3-Leads, Body 9.53x4.83mm, Pitch 2.54mm)
pins: 1 CCW, 2 S, 3 CW

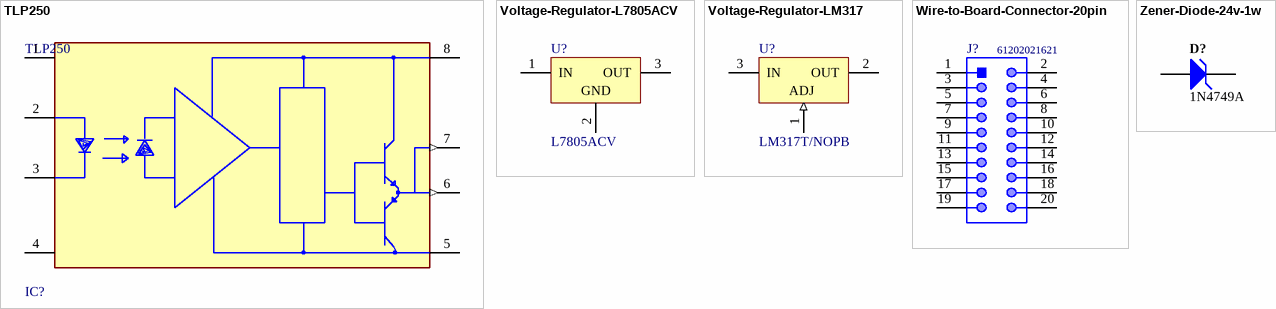
[diagram p1: symbols TLP250 to Zener-Diode-24v-1w]

## TLP250
designator IC?
Optocoupler Drive Push-Pull 1-CH 30V 600V 8-Pin PDIP; Manufacturer: TOSHIBA; Standoff Height: 0.55mm; Turn Off Delay Time: 0.15us; Max Junction Temp: +125°C; Power Dissipation: 800mW; Forward Current: 10mA; Reverse Voltage: 5V; Forward Voltage: 1.6V; Isolation Voltage: 2500Vrms; Min Supply Voltage: 10V; ComponentLink2Description: Datasheet; Octopart: https://octopart.com/tlp-250-toshiba-99104964; Automotive: No; Temperature Range High: +85°C; Lead Free: Yes; Package: 11-10C4; Category: Trans; Temperature Range Low: -20°C; Ipc Land Pattern Name: DIP762W50P254L966H445Q8; ComponentLink2URL: https://toshiba.semicon-storage.com/info/docget.jsp?did=16821&prodName=TLP250; Device Class L3: unset; Turn On Delay Time: 0.15us; Device Class L2: Optocouplers; Manufacturer Part Number: TLP250; Max Supply Voltage: 30V; Height: 4.85mm; Device Class L1: Optoelectronics; Temperature: -20°C to +85°C; RoHS: TRUE
footprint Opto-Coupler-TLP250
pins: 1 NC, 2 A, 3 C, 4 NC, 5 GND (power), 6 VO(Output) (out), 7 VO (out), 8 VCC (power)

## Voltage-Regulator-L7805ACV
designator U?, comment L7805ACV
Positive Voltage Regulator, 5V, 3-Pin TO-220; DatasheetVersion: 16/11/2011; ComponentLink2Description: Datasheet; ComponentLink3Description: Package Specification; ComponentLink2URL: http://www.st.com/internet/com/TECHNICAL_RESOURCES/TECHNICAL_LITERATURE/DATASHEET/CD00000444.pdf; PackageDescription: TO, Thru-Hole, Vertical, Heatsink Mounted; 3 In-Line Leads; Pitch 2.54 mm; ComponentLink3URL: http://www.st.com/internet/com/TECHNICAL_RESOURCES/TECHNICAL_LITERATURE/PACKAGE_INFORMATION/CD00004649.pdf; PackageReference: TO220; ComponentLink1URL: http://www.st.com; PackageVersion: ver3.0; ComponentLink1Description: Manufacturer URL
footprint Voltage-Regulator-L7805ACV (TO, Thru-Hole, Vertical, Heatsink Mounted; 3 In-Line Leads; Pitch 2.54 mm)
pins: 1 IN (power), 2 GND (power), 3 OUT (power)

## Voltage-Regulator-LM317
designator U?, comment LM317T/NOPB
3-Terminal Adjustable Regulator, 3-pin TO-220, Pb-Free; Manufacturer: Texas Instruments; PackageTopMarking: NSUZXYTTE#*LM317T P+; PowerWise: N; CompType: LDO IC; PackageDescription: TO-220, Molded, 3 Lead, Straight; RoHS: Y; ComponentLink1URL: http://www.ti.com/general/docs/lit/getliterature.tsp?genericPartNumber=LM317-N&fileType=pdf; PackageReference: NDE0003A; ComponentLink1Description: Datasheet URL; PinCount: 3
footprint Voltage-Regulator-LM317 (FM, 3-Leads, Body 10.7x4.7mm, Pitch 2.54mm)
pins: 1 ADJ (in), 2 OUT (power), 3 IN (power)

## Wire-to-Board-Connector-20pin
designator J?, comment 61202021621
Male Box Header WR-BHD, THT, Vertical, pitch 2.54 mm, 20 pins; Manufacturer: Wurth Elektronik; Contact Resistance: 20mOhm; Withstanding Voltage: 500VAC; Pitch: 2.54mm; Pin Number: 20; Working Voltage: 250VAC; Orientation: Vertical; Package Reference: 61202021621; Publisher: WurthElektronik; Datasheet URL: https://katalog.we-online.de/em/datasheet/6120xx21621.pdf; Operating Temperature: -40to125degC; Packaging: Tray; Part Number: 61202021621; Mounting Technology: THT; Gender: Male; Manufacturer URL: http://www.we-online.de; Published Date: August2018
footprint Wire-to-Board-Connector-20pin (20 pins, straight, gold plating)
pins: 1, 2, 3, 4, 5, 6, 7, 8, 9, 10, 11, 12, 13, 14, 15, 16, 17, 18, 19, 20

## Zener-Diode-24v-1w
designator D?, comment 1N4749A
Zener Diode, 24V, 1W, 5%, -65 to 200 degC, 2-Pin DO-41, Body 2.72 x 5.2 mm, RoHS; Manufacturer: Fairchild Semiconductor; VZ (Max.) (V): 25.2; IR (uA): 5; PD (W): 1; Test Current IZ (mA): 10.5; VZ (Min.) (V): 22.8; ZZ (Max) (ohm): 25; RoHS: TRUE; ComponentLink2Description: Datasheet; ComponentLink3Description: Package Specification; PackageDescription: 2-Pin Axial leaded, Body 2.72 x 5.2 mm, Lead Spread 25.4 mm; Tolerance: 5%; PartNumber: 1N4749A; Operating and Storage Temperature Range: -65 to 200 degC; PackageReference: DO-41-2; PackageVersion: Rev. 2; Mounting Technology: Through Hole; DatasheetVersion: Rev. H3; ComponentLink3URL: http://www.fairchildsemi.com/dwg/DO/DO41A.pdf; ComponentLink1URL: http://www.fairchildsemi.com/; ComponentLink1Description: Manufacturer URL; ComponentLink2URL: http://www.fairchildsemi.com/ds/1N/1N4744A.pdf
footprint Zener-Diode-24v-1w (2-Leads, Axial leaded, Body 2.72x5.2mm, Pin Spacing 9mm)
pins: 1 A, 2 K